# Altium footprint library CONNECTORS.PcbLib: 7 footprints
Each footprint in its own frame and in the unit in brackets; x right, y up, seen from the top. Pads: shape width x height; smd on the part's side, far side on the other; paste and mask are expansions set on the pad; w line width, h text height; cw(c..) or ccw(c..) is an arc to the next point about the centre after c.
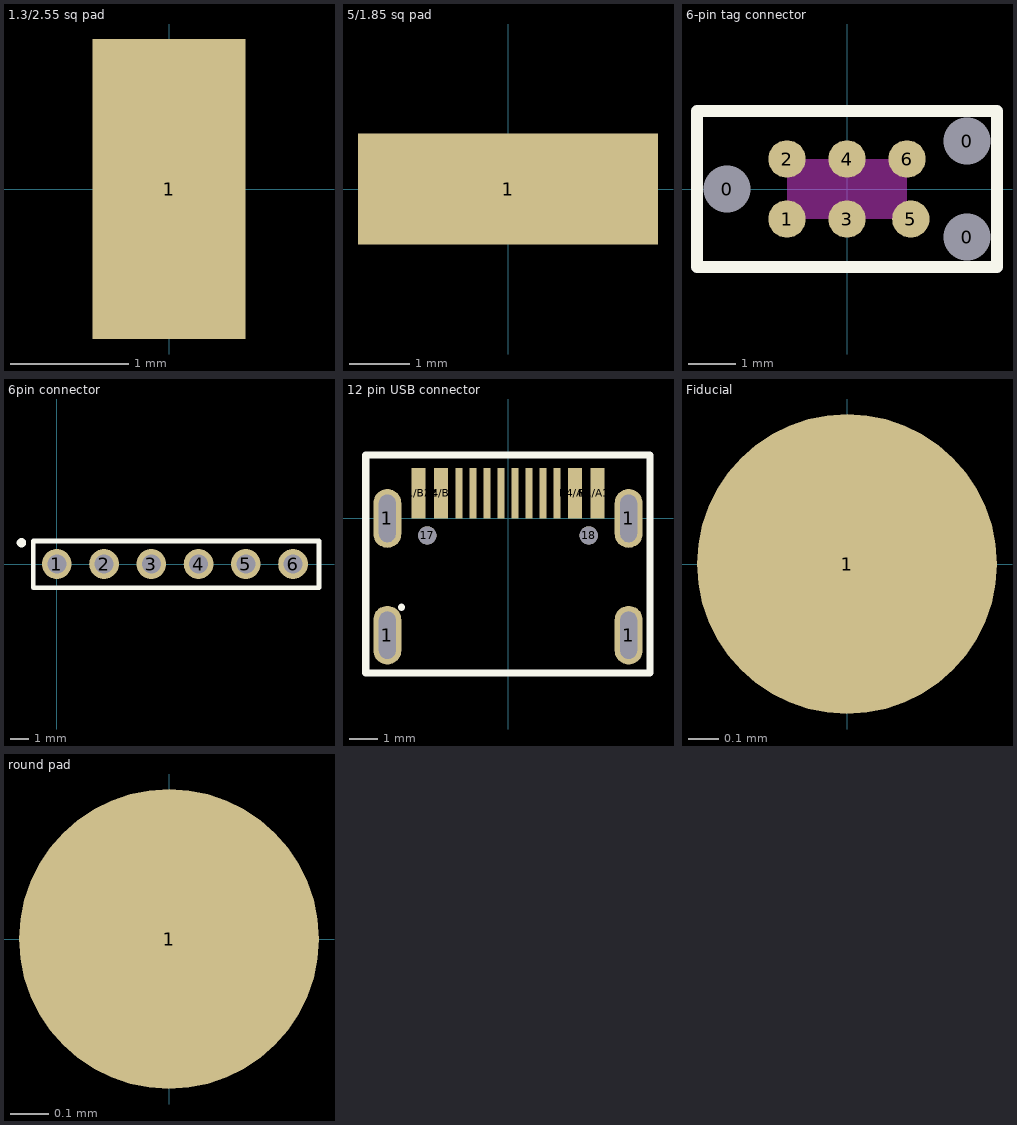
[diagram p0: the footprints below, top view; thin cyan lines are the x and y axes]

## 1.3/2.55 sq pad [mm]
pads (1):
  rect 1.3x2.55 smd paste-2539.97: 1(0,0)

## 5/1.85 sq pad [mm]
pads (1):
  rect 5x1.85 smd paste-2539.97: 1(0,0)

## 6-pin tag connector [mm] "TC2030-CTX-NL"
pads (9):
  round 0.9 hole 0.995 unplated: 0(-2.54,0) 0(2.54,-1.016) 0(2.54,1.016)
  round 0.79 smd paste-0.39: 1(-1.27,-0.635) 2(-1.27,0.635) 3(0,-0.635) 4(0,0.635) 5(1.35,-0.635) 6(1.27,0.635)
Top Overlay:
  lines w0.254: -3.175,-1.651 -3.175,1.651 3.175,1.651 3.175,-1.651 -3.175,-1.651
Keep-Out Layer:
  rectangle: -1.27,-0.635 1.27,0.635

## 6pin connector [mm]
pads (6):
  round 1.6 hole 1.02: 1(0,0) 2(2.54,0) 3(5.08,0) 4(7.62,0) 5(10.16,0) 6(12.7,0)
Top Overlay:
  circle w0.254: c-1.905,1.143 r0.127
  lines w0.254: -1.27,-1.27 14.097,-1.27 14.097,1.233 -1.27,1.233 -1.27,-1.27
3D body "PPTC061LGBN-RC--3DModel-STEP-269445.STEP": height 5.04, standoff -0.65, extent -1.647,-10.1 14.093,0.2

## 12 pin USB connector [mm]
pads (18):
  oval 1x2.1 / inner oval 0.8x1.9 / far side oval 1x2.1 hole 0.6 slot 1.7 at 90 deg: 1(-4.32,-4.18) 1(-4.32,0) 1(4.32,-4.18)
  oval 1x2.1 / inner oval 0.6x1.7 / far side oval 1x2.1 hole 0.6 slot 1.7 at 90 deg: 1(4.32,0)
  round 0.65 hole 0.65 unplated: 17(-2.89,-0.608) 18(2.89,-0.608)
  rect 0.5x1.8 smd: A1/B12(-3.2,0.9) A4/B9(-2.4,0.9) B1/A12(3.2,0.9) B4/A9(2.4,0.9)
  rect 0.25x1.8 smd: A5(-1.25,0.9) A6(-0.25,0.9) A7(0.25,0.9) A8(1.25,0.9) B5(1.75,0.9) B6(0.75,0.9) B7(-0.75,0.9) B8(-1.75,0.9)
Top Overlay:
  lines w0.25: -3.81,-3.182 ccw(c-3.91,-3.175) -3.81,-3.175
  lines w0.254: -5.092,-5.538 -5.092,2.277 5.08,2.277 5.08,-5.538 -5.092,-5.538
3D body "Same_Sky_UJ20-C-H-G-SMT-P16-TR.step": height 3.28, standoff -1.58, extent -4.343,-6.423 4.597,0.327

## Fiducial [mm]
pads (1):
  round 1 all layers, no hole mask-2539.97: 1(0,0)
Top Solder:
  circle w1: c0,0 r0.5
Bottom Solder:
  circle w1: c0,0 r0.5

## round pad [mm]
pads (1):
  round 0.79 smd paste-2539.97: 1(0,0)